# Altium schematic symbol library ATMEL.SchLib: 1 symbol
Pins are listed as number, name and electrical type; pins without a type are passive.

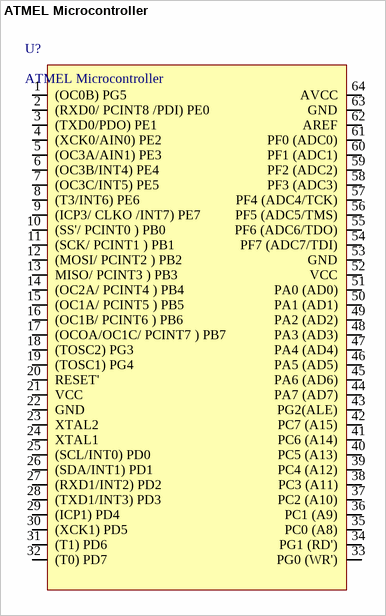
[diagram p0: symbol ATMEL Microcontroller]

## ATMEL Microcontroller
designator U?
8-bit Microconrtoller; Suppler Part Number: ATMEGA2561-16AU-ND; Supplier: Digikey; Datasheet: http://www.atmel.com/dyn/resources/prod_documents/doc2549.pdf
footprint TQFP80P1600X1600X120-64N (TQFP, 64-Leads, Body 16.3x16.3mm (max), Pitch 0.80mm, IPC Medium Density)
pins: 1 (OC0B) PG5, 2 (RXD0/ PCINT8 /PDI) PE0, 3 (TXD0/PDO) PE1, 4 (XCK0/AIN0) PE2, 5 (OC3A/AIN1) PE3, 6 (OC3B/INT4) PE4, 7 (OC3C/INT5) PE5, 8 (T3/INT6) PE6, 9 (ICP3/ CLKO /INT7) PE7, 10 (SS'/ PCINT0 ) PB0, 11 (SCK/ PCINT1 ) PB1, 12 (MOSI/ PCINT2 ) PB2, 13 MISO/ PCINT3 ) PB3, 14 (OC2A/ PCINT4 ) PB4, 15 (OC1A/ PCINT5 ) PB5, 16 (OC1B/ PCINT6 ) PB6, 17 (OCOA/OC1C/ PCINT7 ) PB7, 18 (TOSC2) PG3, 19 (TOSC1) PG4, 20 RESET', 21 VCC, 22 GND, 23 XTAL2, 24 XTAL1, 25 (SCL/INT0) PD0, 26 (SDA/INT1) PD1, 27 (RXD1/INT2) PD2, 28 (TXD1/INT3) PD3, 29 (ICP1) PD4, 30 (XCK1) PD5, 31 (T1) PD6, 32 (T0) PD7, 33 PG0 (WR'), 34 PG1 (RD'), 35 PC0 (A8), 36 PC1 (A9), 37 PC2 (A10), 38 PC3 (A11), 39 PC4 (A12), 40 PC5 (A13), 41 PC6 (A14), 42 PC7 (A15), 43 PG2(ALE), 44 PA7 (AD7), 45 PA6 (AD6), 46 PA5 (AD5), 47 PA4 (AD4), 48 PA3 (AD3), 49 PA2 (AD2), 50 PA1 (AD1), 51 PA0 (AD0), 52 VCC, 53 GND, 54 PF7 (ADC7/TDI), 55 PF6 (ADC6/TDO), 56 PF5 (ADC5/TMS), 57 PF4 (ADC4/TCK), 58 PF3 (ADC3), 59 PF2 (ADC2), 60 PF1 (ADC1), 61 PF0 (ADC0), 62 AREF, 63 GND, 64 AVCC